# Altium footprint library SM_DIODE_POWERDI123.PcbLib: 1 footprints
Each footprint in its own frame and in the unit in brackets; x right, y up, seen from the top. Pads: shape width x height; smd on the part's side, far side on the other; paste and mask are expansions set on the pad; w line width, h text height; cw(c..) or ccw(c..) is an arc to the next point about the centre after c.
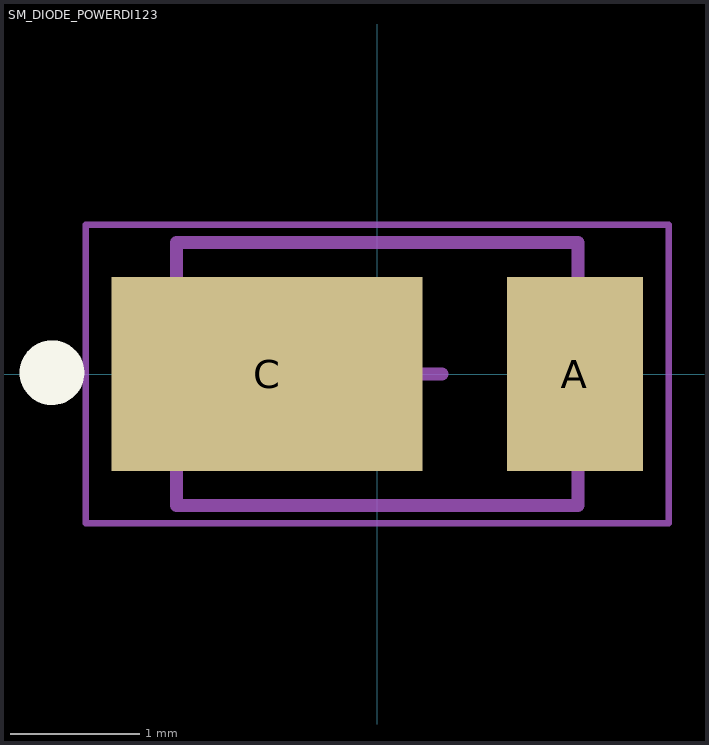
[diagram p0: the footprint, top view; thin cyan lines are the x and y axes]

## SM_DIODE_POWERDI123 [mm] "PowerDI 123 Super Barrier Diode"
height 0.025
pads (2):
  rect 1.05x1.5 smd: A(1.525,0)
  rect 2.4x1.5 smd: C(-0.85,0)
Top Overlay:
  circle w0.25: c-2.51,0.01 r0.125
Mechanical 13:
  lines w0.1: -1.55,-1.015 1.55,-1.015 1.55,1.015 -1.55,1.015 -1.55,-1.015
Mechanical 15:
  lines w0.05: -2.25,-1.15 2.25,-1.15 2.25,1.15 -2.25,1.15 -2.25,-1.15
  lines w0.1: -0.5,0 0.5,0 ; 0,-0.5 0,0.5
3D body: height 1, standoff 1, extent -0.25,-0.25 0.5,0.25
3D body: height 1, standoff 1, extent -1.125,-0.925 -1.025,0.925
3D body: height 1, standoff 0, extent -1.5,-0.965 1.5,0.965